# Altium schematic symbol library Diode_Schottky.SchLib: 1 symbol
Pins are listed as number, name and electrical type; pins without a type are passive.

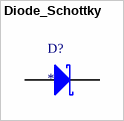
[diagram p0: symbol Diode_Schottky]

## Diode_Schottky
designator D?
pins: 1 A, 2 K